# EAGLE library part HV518 (library taki-library)
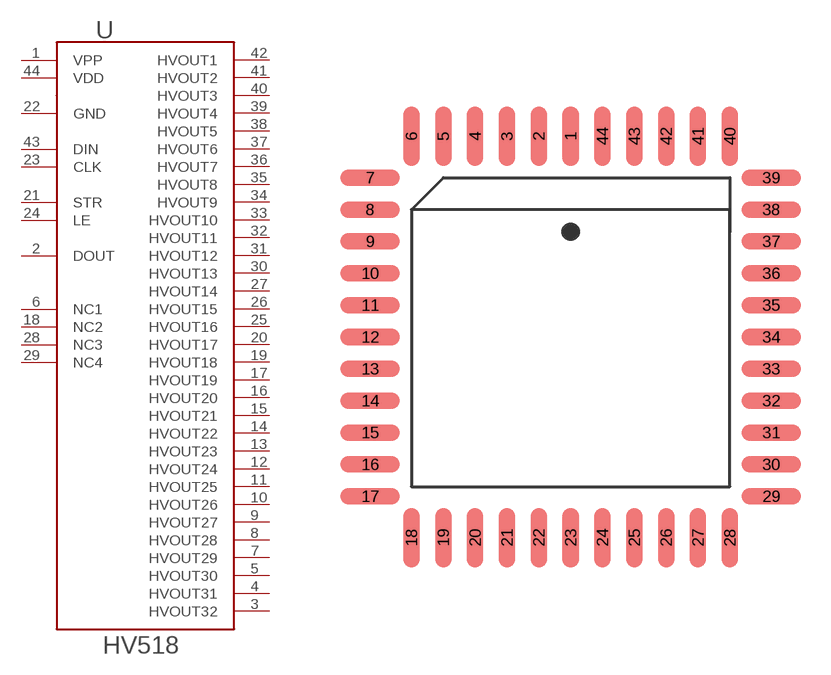
[diagram p7: symbol with the pads of PLCC-44; footprint PLCC-44]

Designator prefix U

## HV518-PLCC  [PLCC-44]
1  VPP
2  DOUT
3  HVOUT32
4  HVOUT31
5  HVOUT30
6  NC1  nc
7  HVOUT29
8  HVOUT28
9  HVOUT27
10  HVOUT26
11  HVOUT25
12  HVOUT24
13  HVOUT23
14  HVOUT22
15  HVOUT21
16  HVOUT20
17  HVOUT19
18  NC2  nc
19  HVOUT18
20  HVOUT17
21  STR
22  GND
23  CLK
24  LE
25  HVOUT16
26  HVOUT15
27  HVOUT14
28  NC3  nc
29  NC4  nc
30  HVOUT13
31  HVOUT12
32  HVOUT11
33  HVOUT10
34  HVOUT9
35  HVOUT8
36  HVOUT7
37  HVOUT6
38  HVOUT5
39  HVOUT4
40  HVOUT3
41  HVOUT2
42  HVOUT1
43  DIN
44  VDD

## Footprint PLCC-44 (pad centres in mm)
smd 0.66 x 2.388: 1 0,0; 2 -1.27,0; 3 -2.54,0; 4 -3.81,0; 5 -5.08,0; 6 -6.35,0; 18 -6.35,-16.002; 19 -5.08,-16.002; 20 -3.81,-16.002; 21 -2.54,-16.002; 22 -1.27,-16.002; 23 0,-16.002; 24 1.27,-16.002; 25 2.54,-16.002; 26 3.81,-16.002; 27 5.08,-16.002; 28 6.35,-16.002; 40 6.35,0; 41 5.08,0; 42 3.81,0; 43 2.54,0; 44 1.27,0
smd 2.388 x 0.66: 7 -8.001,-1.651; 8 -8.001,-2.921; 9 -8.001,-4.191; 10 -8.001,-5.461; 11 -8.001,-6.731; 12 -8.001,-8.001; 13 -8.001,-9.271; 14 -8.001,-10.541; 15 -8.001,-11.811; 16 -8.001,-13.081; 17 -8.001,-14.351; 29 8.001,-14.351; 30 8.001,-13.081; 31 8.001,-11.811; 32 8.001,-10.541; 33 8.001,-9.271; 34 8.001,-8.001; 35 8.001,-6.731; 36 8.001,-5.461; 37 8.001,-4.191; 38 8.001,-2.921; 39 8.001,-1.651